# EAGLE library part SIP32431DR3 (library SIP32431DR3T1GE3)
Ultra Low Leakage and Quiescent Current, 1 A Load Switch with Reverse Blocking
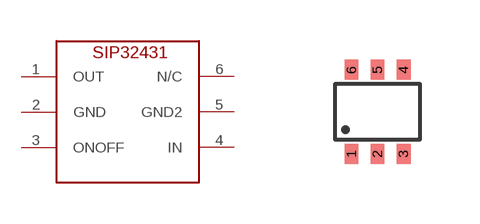
[diagram p0: symbol with the pads of SC-70-6; footprint SC-70-6]

Designator prefix -

## SIP32431DR3  [SC-70-6]
1  OUT
2  GND
3  ONOFF
4  IN
5  GND2
6  N/C

## Footprint SC-70-6 (pad centres in mm)
Texas Instruments Package SC-70-6 (-DCK)
smd 0.35 x 0.5: 1 -0.65,-1.05; 2 0,-1.05; 3 0.65,-1.05; 4 0.65,1.05; 5 0,1.05; 6 -0.65,1.05